# EAGLE library part AD620ARZ (library 029000100  -  gKEagleLibrary)
Low Instrumentation Amplifier
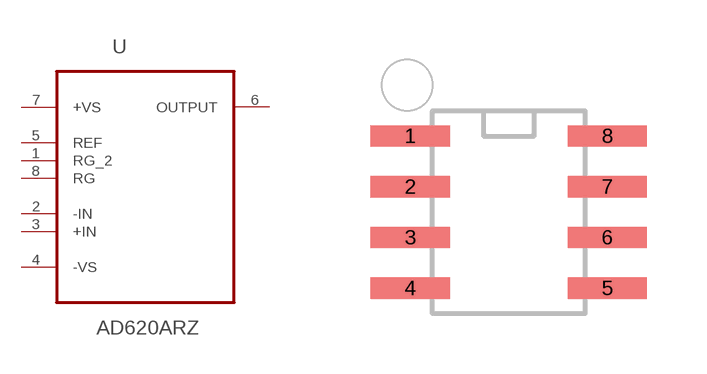
[diagram p29: symbol with the pads of SOIC127P600X175-8N; footprint SOIC127P600X175-8N]

Designator prefix U

## AD620ARZ (MPN: AD620ARZ; OC_FARNELL: 2120080; OC_NEWARK: 82H2866; PACKAGE: SOIC-8; SUPPLIER: Analog Devices)  [SOIC127P600X175-8N]
1  RG_2  pas
2  -IN  in
3  +IN  in
4  -VS  pwr
5  REF  pas
6  OUTPUT  out
7  +VS  pwr
8  RG  pas

## Footprint SOIC127P600X175-8N (pad centres in mm)
smd 1.981 x 0.533: 1 -2.464,1.905; 2 -2.464,0.635; 3 -2.464,-0.635; 4 -2.464,-1.905; 5 2.464,-1.905; 6 2.464,-0.635; 7 2.464,0.635; 8 2.464,1.905